# Altium footprint library EXP_HW_V3.PcbLib: 103 footprints (part 3 of 7)
Each footprint in its own frame and in the unit in brackets; x right, y up, seen from the top. Pads: shape width x height; smd on the part's side, far side on the other; paste and mask are expansions set on the pad; w line width, h text height; cw(c..) or ccw(c..) is an arc to the next point about the centre after c.
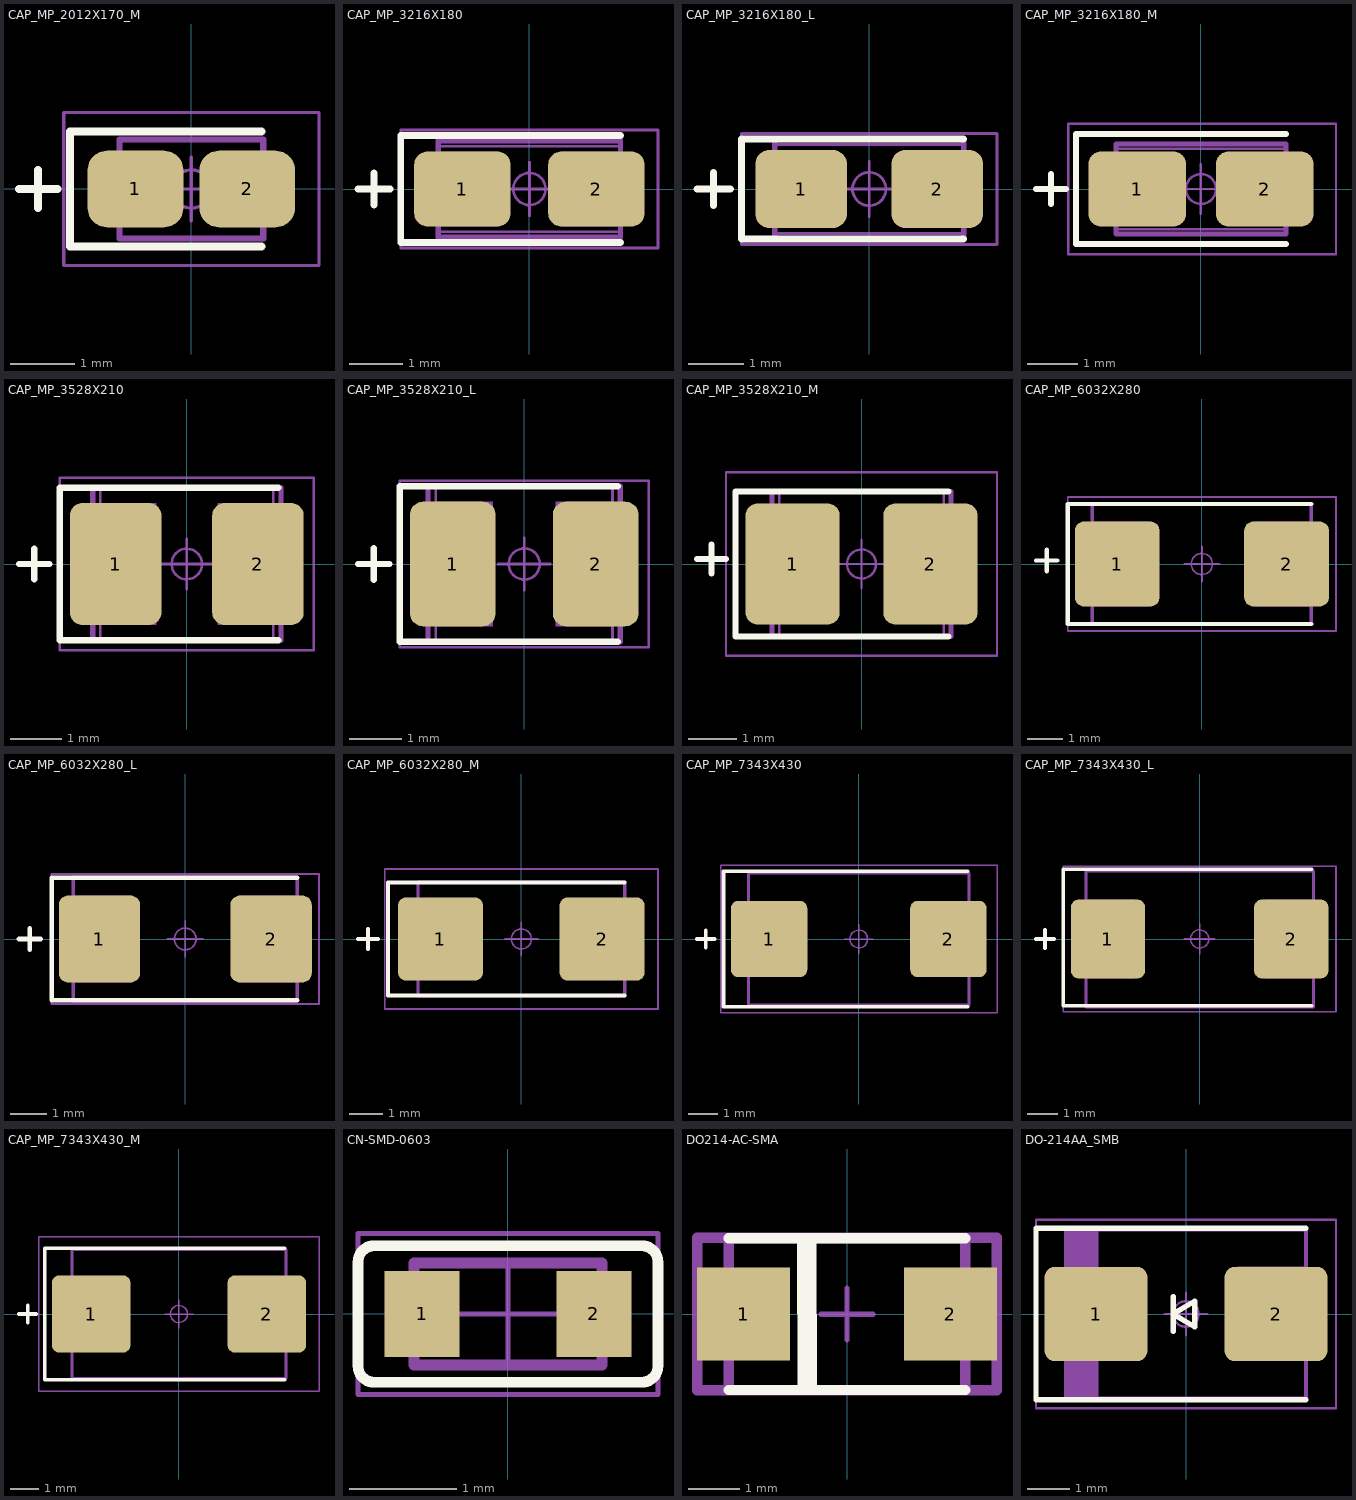
[diagram p2: the footprints below, top view; thin cyan lines are the x and y axes]

## CAP_MP_2012X170_M [mm] "Molded Capacitor, 2-Leads, Body 2.05x1.40mm, IPC Medium Density"
height 1.5
pads (2):
  rrect50% 1.5x1.2 smd: 1(-0.875,0) 2(0.875,0)
Top Overlay:
  lines w0.125: -2.7,0 -2.1,0 ; -2.4,-0.3 -2.4,0.3 ; 1.1,-0.9 -1.9,-0.9 -1.9,0.9 1.1,0.9
Top Assembly:
  lines w0.1: -1.125,-0.775 1.125,-0.775 1.125,0.775 -1.125,0.775 -1.125,-0.775
  text "'.Designator'" at -3.952,-0.622 h1.5
Top Courtyard:
  lines w0.05: -2,-1.2 2,-1.2 2,1.2 -2,1.2 -2,-1.2
Top Component Outline:
  region: 1.125,0.55 0.325,0.55 0.325,-0.55 1.125,-0.55
  rectangle: -1.125,-0.55 -0.325,0.55
  lines w0.05: -1.125,-0.775 -1.125,0.775 1.125,0.775 1.125,-0.775 -1.125,-0.775
Top Component Center:
  circle w0.05: c0,0 r0.3
  lines w0.05: -0.5,0 0.5,0 ; 0,-0.5 0,0.5
3D body "CAP_TPS-P_KAV.step": height 1.75, standoff 0, extent -1.13,-0.775 1.13,0.775

## CAP_MP_3216X180 [mm] "Molded Capacitor, 2-Leads, Body 3.20x1.65mm, IPC Medium Density"
height 1.8
pads (2):
  rrect35% 1.8x1.4 smd: 1(-1.25,0) 2(1.25,0)
Top Overlay:
  lines w0.125: -3.2,0 -2.6,0 ; -2.9,-0.3 -2.9,0.3 ; 1.7,-1 -2.4,-1 -2.4,1 1.7,1
Top Assembly:
  lines w0.1: -1.7,-0.9 1.7,-0.9 1.7,0.9 -1.7,0.9 -1.7,-0.9
  text "'.Designator'" at -4.217,-0.663 h1.6
Top Courtyard:
  lines w0.05: -2.4,-1.1 2.4,-1.1 2.4,1.1 -2.4,1.1 -2.4,-1.1
Top Component Outline:
  region: 1.7,0.7 0.6,0.7 0.6,-0.7 1.7,-0.7
  rectangle: -1.7,-0.7 -0.6,0.7
  lines w0.05: -1.7,-0.8 -1.7,0.8 1.7,0.8 1.7,-0.8 -1.7,-0.8
Top Component Center:
  circle w0.05: c0,0 r0.3
  lines w0.05: -0.5,0 0.5,0 ; 0,-0.5 0,0.5
3D body "CAPMP34X16_18N_KEM.step": height 1.85, standoff 0, extent -1.7,-0.8 1.7,0.8

## CAP_MP_3216X180_L [mm] "Molded Capacitor, 2-Leads, Body 3.20x1.65mm, IPC Medium Density"
height 1.8
pads (2):
  rrect35% 1.65x1.4 smd: 1(-1.225,0) 2(1.225,0)
Top Overlay:
  lines w0.125: -3.1,0 -2.5,0 ; -2.8,-0.3 -2.8,0.3 ; 1.7,-0.9 -2.3,-0.9 -2.3,0.9 1.7,0.9
Top Assembly:
  lines w0.1: -1.7,-0.9 1.7,-0.9 1.7,0.9 -1.7,0.9 -1.7,-0.9
  text "'.Designator'" at -4.217,-0.663 h1.6
Top Courtyard:
  lines w0.05: -2.3,-1 2.3,-1 2.3,1 -2.3,1 -2.3,-1
Top Component Outline:
  rectangle: -1.7,-0.7 -0.6,0.7
  region: 1.7,0.7 0.6,0.7 0.6,-0.7 1.7,-0.7
  lines w0.05: -1.7,-0.8 1.7,-0.8 1.7,0.8 -1.7,0.8 -1.7,-0.8
Top Component Center:
  circle w0.05: c0,0 r0.3
  lines w0.05: -0.5,0 0.5,0 ; 0,-0.5 0,0.5
3D body "CAPMP34X16_18N_KEM.step": height 1.85, standoff 0, extent -1.7,-0.8 1.7,0.8

## CAP_MP_3216X180_M [mm] "Molded Capacitor, 2-Leads, Body 3.20x1.65mm, IPC Medium Density"
height 1.8
pads (2):
  rrect33% 1.95x1.5 smd: 1(-1.275,0) 2(1.275,0)
Top Overlay:
  lines w0.125: -3.3,0 -2.7,0 ; -3,-0.3 -3,0.3 ; 1.7,-1.1 -2.5,-1.1 -2.5,1.1 1.7,1.1
Top Assembly:
  lines w0.1: -1.7,-0.9 1.7,-0.9 1.7,0.9 -1.7,0.9 -1.7,-0.9
  text "'.Designator'" at -4.217,-0.663 h1.6
Top Courtyard:
  lines w0.05: -2.65,-1.3 2.7,-1.3 2.7,1.3 -2.65,1.3 -2.65,-1.3
Top Component Outline:
  region: 1.7,0.7 0.6,0.7 0.6,-0.7 1.7,-0.7
  rectangle: -1.7,-0.7 -0.6,0.7
  lines w0.05: -1.7,-0.8 -1.7,0.8 1.7,0.8 1.7,-0.8 -1.7,-0.8
Top Component Center:
  circle w0.05: c0,0 r0.3
  lines w0.05: -0.5,0 0.5,0 ; 0,-0.5 0,0.5
3D body "CAPMP34X16_18N_KEM.step": height 1.85, standoff 0, extent -1.7,-0.8 1.7,0.8

## CAP_MP_3528X210 [mm] "Molded Capacitor, 2-Leads, Body 3.50x2.85mm, IPC Medium Density"
height 2.1
pads (2):
  rrect27% 1.8x2.4 smd: 1(-1.4,0) 2(1.4,0)
Top Overlay:
  lines w0.125: -3.3,0 -2.7,0 ; -3,-0.3 -3,0.3 ; 1.8,-1.5 -2.5,-1.5 -2.5,1.5 1.8,1.5
Top Assembly:
  lines w0.1: -1.85,-1.5 1.85,-1.5 1.85,1.5 -1.85,1.5 -1.85,-1.5
  text "'.Designator'" at -4.217,-0.663 h1.6
Top Courtyard:
  lines w0.05: -2.5,-1.7 -2.5,1.7 2.5,1.7 2.5,-1.7 -2.5,-1.7
Top Component Outline:
  rectangle: -1.7,-1.2 -0.6,1.2
  region: 1.7,1.2 0.6,1.2 0.6,-1.2 1.7,-1.2
  lines w0.05: -1.7,-1.5 1.7,-1.5 1.7,1.5 -1.7,1.5 -1.7,-1.5
Top Component Center:
  circle w0.05: c0,0 r0.3
  lines w0.05: -0.5,0 0.5,0 ; 0,-0.5 0,0.5
3D body "F93-C_AVX.step": height 2.16, standoff 0, extent -1.702,-1.499 1.702,1.499

## CAP_MP_3528X210_L [mm] "Molded Capacitor, 2-Leads, Body 3.50x2.85mm, IPC Medium Density"
height 2.1
pads (2):
  rrect30% 1.65x2.4 smd: 1(-1.375,0) 2(1.375,0)
Top Overlay:
  lines w0.125: -3.2,0 -2.6,0 ; -2.9,-0.3 -2.9,0.3 ; 1.8,-1.5 -2.4,-1.5 -2.4,1.5 1.8,1.5
Top Assembly:
  lines w0.1: -1.85,-1.5 -1.85,1.5 1.85,1.5 1.85,-1.5 -1.85,-1.5
  text "'.Designator'" at -4.217,-0.663 h1.6
Top Courtyard:
  lines w0.05: -2.4,-1.6 -2.4,1.6 2.4,1.6 2.4,-1.6 -2.4,-1.6
Top Component Outline:
  rectangle: -1.7,-1.2 -0.6,1.2
  region: 1.7,1.2 0.6,1.2 0.6,-1.2 1.7,-1.2
  lines w0.05: -1.7,-1.5 1.7,-1.5 1.7,1.5 -1.7,1.5 -1.7,-1.5
Top Component Center:
  circle w0.05: c0,0 r0.3
  lines w0.05: -0.5,0 0.5,0 ; 0,-0.5 0,0.5
3D body "F93-C_AVX.step": height 2.16, standoff 0, extent -1.702,-1.499 1.702,1.499

## CAP_MP_3528X210_M [mm] "Molded Capacitor, 2-Leads, Body 3.50x2.85mm, IPC Medium Density"
height 2.1
pads (2):
  rrect25% 1.95x2.5 smd: 1(-1.425,0) 2(1.425,0)
Top Overlay:
  lines w0.125: -3.4,0.1 -2.8,0.1 ; -3.1,-0.2 -3.1,0.4 ; 1.8,-1.5 -2.6,-1.5 -2.6,1.5 1.8,1.5
Top Assembly:
  lines w0.1: -1.85,-1.5 -1.85,1.5 1.85,1.5 1.85,-1.5 -1.85,-1.5
  text "'.Designator'" at -4.217,-0.663 h1.6
Top Courtyard:
  lines w0.05: -2.8,-1.9 -2.8,1.9 2.8,1.9 2.8,-1.9 -2.8,-1.9
Top Component Outline:
  rectangle: -1.7,-1.2 -0.6,1.2
  region: 1.7,1.2 0.6,1.2 0.6,-1.2 1.7,-1.2
  lines w0.05: -1.7,-1.5 1.7,-1.5 1.7,1.5 -1.7,1.5 -1.7,-1.5
Top Component Center:
  circle w0.05: c0,0 r0.3
  lines w0.05: -0.5,0 0.5,0 ; 0,-0.5 0,0.5
3D body "F93-C_AVX.step": height 2.16, standoff 0, extent -1.702,-1.499 1.702,1.499

## CAP_MP_6032X280 [mm] "Molded Capacitor, 2-Leads, Body 6.00x3.25mm, IPC Medium Density"
height 2.8
pads (2):
  rrect20% 2.4x2.4 smd: 1(-2.4,0) 2(2.4,0)
Top Overlay:
  lines w0.125: -4.7,0.1 -4.1,0.1 ; -4.4,-0.2 -4.4,0.4 ; 3.1,-1.7 -3.8,-1.7 -3.8,1.7 3.1,1.7
Top Assembly:
  lines w0.1: -3.1,-1.7 -3.1,1.7 3.1,1.7 3.1,-1.7 -3.1,-1.7
  text "'.Designator'" at -3.952,-0.622 h1.5
Top Courtyard:
  lines w0.05: -3.8,-1.9 -3.8,1.9 3.8,1.9 3.8,-1.9 -3.8,-1.9
Top Component Outline:
  rectangle: -3.1,-1.2 -1.5,1.2
  region: 3.1,1.2 1.5,1.2 1.5,-1.2 3.1,-1.2
  lines w0.05: -3.1,-1.7 3.1,-1.7 3.1,1.7 -3.1,1.7 -3.1,-1.7
Top Component Center:
  circle w0.05: c0,0 r0.3
  lines w0.05: -0.5,0 0.5,0 ; 0,-0.5 0,0.5
3D body "TAJC_AVX.step": height 2.85, standoff 0, extent -3.099,-1.702 3.099,1.702

## CAP_MP_6032X280_L [mm] "Molded Capacitor, 2-Leads, Body 6.00x3.25mm, IPC Medium Density"
height 2.8
pads (2):
  rrect22% 2.25x2.4 smd: 1(-2.375,0) 2(2.375,0)
Top Overlay:
  lines w0.125: -4.6,0 -4,0 ; -4.3,-0.3 -4.3,0.3 ; 3.1,-1.7 -3.7,-1.7 -3.7,1.7 3.1,1.7
Top Assembly:
  lines w0.1: -3.1,-1.7 3.1,-1.7 3.1,1.7 -3.1,1.7 -3.1,-1.7
  text "'.Designator'" at -3.952,-0.622 h1.5
Top Courtyard:
  lines w0.05: -3.7,-1.8 3.7,-1.8 3.7,1.8 -3.7,1.8 -3.7,-1.8
Top Component Outline:
  region: 3.1,1.2 1.5,1.2 1.5,-1.2 3.1,-1.2
  rectangle: -3.1,-1.2 -1.5,1.2
  lines w0.05: -3.1,-1.7 -3.1,1.7 3.1,1.7 3.1,-1.7 -3.1,-1.7
Top Component Center:
  circle w0.05: c0,0 r0.3
  lines w0.05: -0.5,0 0.5,0 ; 0,-0.5 0,0.5
3D body "TAJC_AVX.step": height 2.85, standoff 0, extent -3.099,-1.702 3.099,1.702

## CAP_MP_6032X280_M [mm] "Molded Capacitor, 2-Leads, Body 6.00x3.25mm, IPC Medium Density"
height 2.8
pads (2):
  rrect19% 2.55x2.5 smd: 1(-2.425,0) 2(2.425,0)
Top Overlay:
  lines w0.125: -4.9,0 -4.3,0 ; -4.6,-0.3 -4.6,0.3 ; 3.1,-1.7 -4,-1.7 -4,1.7 3.1,1.7
Top Assembly:
  lines w0.1: -3.1,-1.7 3.1,-1.7 3.1,1.7 -3.1,1.7 -3.1,-1.7
  text "'.Designator'" at -3.952,-0.622 h1.5
Top Courtyard:
  lines w0.05: -4.1,-2.1 4.1,-2.1 4.1,2.1 -4.1,2.1 -4.1,-2.1
Top Component Outline:
  rectangle: -3.1,-1.2 -1.5,1.2
  region: 3.1,1.2 1.5,1.2 1.5,-1.2 3.1,-1.2
  lines w0.05: -3.1,-1.7 3.1,-1.7 3.1,1.7 -3.1,1.7 -3.1,-1.7
Top Component Center:
  circle w0.05: c0,0 r0.3
  lines w0.05: -0.5,0 0.5,0 ; 0,-0.5 0,0.5
3D body "TAJC_AVX.step": height 2.85, standoff 0, extent -3.099,-1.702 3.099,1.702

## CAP_MP_7343X430 [mm] "Molded Capacitor, 2-Leads, Body 7.30x4.35mm, IPC Medium Density"
height 4.3
pads (2):
  rrect19% 2.6x2.6 smd: 1(-3.05,0) 2(3.05,0)
Top Overlay:
  lines w0.125: -5.5,0 -4.9,0 ; -5.2,-0.3 -5.2,0.3 ; 3.7,-2.3 -4.6,-2.3 -4.6,2.3 3.7,2.3
Top Assembly:
  lines w0.1: -3.75,-2.25 3.75,-2.25 3.75,2.25 -3.75,2.25 -3.75,-2.25
  text "'.Designator'" at -3.952,-0.622 h1.5
Top Courtyard:
  lines w0.05: -4.7,-2.5 4.7,-2.5 4.7,2.5 -4.7,2.5 -4.7,-2.5
Top Component Outline:
  region: 3.75,1.3 2.15,1.3 2.15,-1.3 3.75,-1.3
  rectangle: -3.75,-1.3 -2.15,1.3
  lines w0.05: -3.75,-2.25 3.75,-2.25 3.75,2.25 -3.75,2.25 -3.75,-2.25
Top Component Center:
  circle w0.05: c0,0 r0.3
  lines w0.05: -0.5,0 0.5,0 ; 0,-0.5 0,0.5
3D body "TAJE_AVX.step": height 4.37, standoff 0, extent -3.746,-2.248 3.746,2.248

## CAP_MP_7343X430_L [mm] "Molded Capacitor, 2-Leads, Body 7.30x4.35mm, IPC Medium Density"
height 4.3
pads (2):
  rrect20% 2.45x2.6 smd: 1(-3.025,0) 2(3.025,0)
Top Overlay:
  lines w0.125: -5.4,0 -4.8,0 ; -5.1,-0.3 -5.1,0.3 ; 3.7,-2.2 -4.5,-2.2 -4.5,2.3 3.7,2.3
Top Assembly:
  lines w0.1: -3.75,-2.25 -3.75,2.25 3.75,2.25 3.75,-2.25 -3.75,-2.25
  text "'.Designator'" at -3.952,-0.622 h1.5
Top Courtyard:
  lines w0.05: -4.5,-2.4 -4.5,2.4 4.5,2.4 4.5,-2.4 -4.5,-2.4
Top Component Outline:
  rectangle: -3.75,-1.3 -2.15,1.3
  region: 3.75,1.3 2.15,1.3 2.15,-1.3 3.75,-1.3
  lines w0.05: -3.75,-2.25 -3.75,2.25 3.75,2.25 3.75,-2.25 -3.75,-2.25
Top Component Center:
  circle w0.05: c0,0 r0.3
  lines w0.05: -0.5,0 0.5,0 ; 0,-0.5 0,0.5
3D body "TAJE_AVX.step": height 4.37, standoff 0, extent -3.746,-2.248 3.746,2.248

## CAP_MP_7343X430_M [mm] "Molded Capacitor, 2-Leads, Body 7.30x4.35mm, IPC Medium Density"
height 4.3
pads (2):
  rrect18% 2.75x2.7 smd: 1(-3.075,0) 2(3.075,0)
Top Overlay:
  lines w0.125: -5.6,0 -5,0 ; -5.3,-0.3 -5.3,0.3 ; 3.7,-2.3 -4.7,-2.3 -4.7,2.3 3.7,2.3
Top Assembly:
  lines w0.1: -3.75,-2.25 -3.75,2.25 3.75,2.25 3.75,-2.25 -3.75,-2.25
  text "'.Designator'" at -3.952,-0.622 h1.5
Top Courtyard:
  lines w0.05: -4.9,-2.7 4.9,-2.7 4.9,2.7 -4.9,2.7 -4.9,-2.7
Top Component Outline:
  region: 3.75,1.3 2.15,1.3 2.15,-1.3 3.75,-1.3
  rectangle: -3.75,-1.3 -2.15,1.3
  lines w0.05: -3.75,-2.25 3.75,-2.25 3.75,2.25 -3.75,2.25 -3.75,-2.25
Top Component Center:
  circle w0.05: c0,0 r0.3
  lines w0.05: -0.5,0 0.5,0 ; 0,-0.5 0,0.5
3D body "TAJE_AVX.step": height 4.37, standoff 0, extent -3.746,-2.248 3.746,2.248

## CN-SMD-0603 [mm]
pads (2):
  rect 0.7x0.8 smd: 1(-0.8,0) 2(0.8,0)
Top Overlay:
  lines w0.1: -1.397,-0.485 ccw(c-1.247,-0.485) -1.247,-0.635 1.247,-0.635 ccw(c1.247,-0.485) 1.397,-0.485 1.397,0.485 ccw(c1.247,0.485) 1.247,0.635 -1.247,0.635 ccw(c-1.247,0.485) -1.397,0.485 -1.397,-0.485
Mechanical 13:
  lines w0.1: -0.875,-0.475 -0.875,0.475 0.875,0.475 0.875,-0.475 -0.875,-0.475
Mechanical 15:
  lines w0.05: -0.475,0 0.475,0 ; 0,-0.475 0,0.475 ; -1.397,-0.75 -1.397,0.75 1.397,0.75 1.397,-0.75 -1.397,-0.75
3D body "User Library-0603 SMD Capacitor.step": height 0.3, standoff 0, extent -0.8,-0.4 0.8,0.4

## DO214-AC-SMA [mm]
pads (2):
  rect 1.8x1.8 smd paste+0: 1(-2,0) 2(2,0)
Top Overlay:
  lines w0.2: -2.285,-1.465 2.285,-1.465 ; -2.285,1.465 2.285,1.465
  lines w0.381: -0.778,1.349 -0.769,-1.343
Top Assembly:
  lines w0.2: -2.895,-1.472 -2.895,1.48 2.895,1.48 2.895,-1.472 -2.895,-1.472
Top 3D Body:
  lines w0.2: -2.285,-1.467 -2.285,1.462 2.285,1.462 2.285,-1.467 -2.285,-1.467
Top Component Center:
  lines w0.1: -0.5,0 0.5,0 ; 0,-0.5 0,0.5
3D body "SS54.stp": height 2.45, standoff 0, extent -2.55,-1.3 2.55,1.3

## DO-214AA_SMB [mm] "Molded Diode, 2-Leads, Body 5.40x3.63mm, IPC Medium Density"
height 2.47
pads (2):
  rrect22% 2.4x2.2 smd: 1(-2.1,0) 2(2.1,0)
Top Overlay:
  lines w0.12: 2.8,-2 -3.5,-2 -3.5,2 2.8,2
  lines w0.125: -0.3,-0.4 -0.3,0.4 ; -0.3,0 0.2,0.3 0.2,-0.3 -0.3,0
Top Assembly:
  rectangle: -2.8,-1.975 -2.047,1.975
  lines w0.1: -2.8,-1.975 -2.8,1.975 2.8,1.975 2.8,-1.975 -2.8,-1.975
  text "'.Designator'" at -3.952,-0.622 h1.5
Top Courtyard:
  lines w0.05: -3.5,-2.2 3.5,-2.2 3.5,2.2 -3.5,2.2 -3.5,-2.2
Top Component Outline:
  rectangle: -2.8,-1.1 -1.2,1.1
  region: 2.798,1.107 1.198,1.107 1.198,-1.093 2.798,-1.093
  lines w0.05: -2.8,-1.975 -2.8,1.975 2.8,1.975 2.8,-1.975 -2.8,-1.975
Top Component Center:
  circle w0.05: c0,0 r0.3
  lines w0.05: -0.5,0 0.5,0 ; 0,-0.5 0,0.5
3D body "5BT.STEP": height 2.44, standoff 0, extent -2.699,-1.81 2.699,1.81